# EAGLE library part EZG-?-319 (library con-lemo)
LEMO Connector Source: http://www.lemo.com/pdfs/catalog/ROW/German/unipole_multipole.pdf
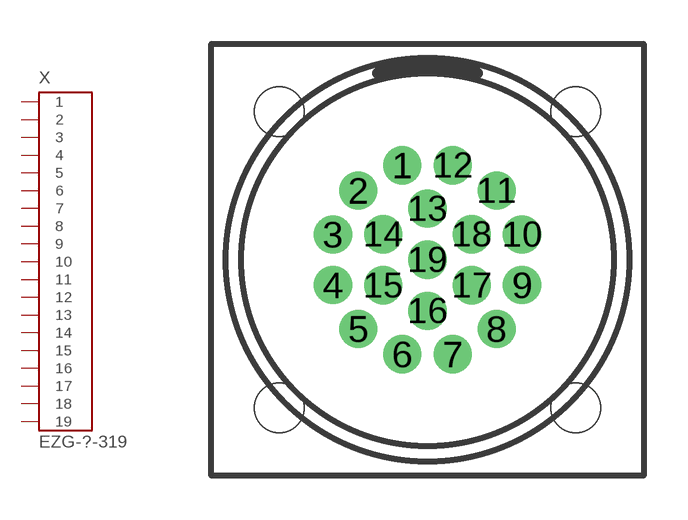
[diagram p1: symbol with the pads of EZG-2B-2K-319; footprint EZG-2B-2K-319]

Designator prefix X

## EZG-2B-319 (OC_FARNELL: unknown; OC_NEWARK: unknown)  [EZG-2B-2K-319]
1  1  pas
2  2  pas
3  3  pas
4  4  pas
5  5  pas
6  6  pas
7  7  pas
8  8  pas
9  9  pas
10  10  pas
11  11  pas
12  12  pas
13  13  pas
14  14  pas
15  15  pas
16  16  pas
17  17  pas
18  18  pas
19  19  pas

## EZG-2K-319 (OC_FARNELL: unknown; OC_NEWARK: unknown)  [EZG-2B-2K-319]
Pads as for EZG-2B-2K-319

## Footprint EZG-2B-2K-319 (pad centres in mm)
LEMO Connector Source: http://www.lemo.com/pdfs/catalog/ROW/German/unipole_multipole.pdf
drill 0.8 pad 1.3: 1 -0.867,3.236; 2 -2.369,2.369; 3 -3.236,0.867; 4 -3.236,-0.867; 5 -2.369,-2.369; 6 -0.867,-3.236; 7 0.867,-3.236; 8 2.369,-2.369; 9 3.236,-0.867; 10 3.236,0.867; 11 2.369,2.369; 12 0.867,3.236; 13 0,1.75; 14 -1.516,0.875; 15 -1.516,-0.875; 16 0,-1.75; 17 1.516,-0.875; 18 1.516,0.875; 19 0,0
hole 1.7 at -5.08,5.08
hole 1.7 at 5.08,5.08
hole 1.7 at 5.08,-5.08
hole 1.7 at -5.08,-5.08